# EAGLE library part 6_PIN_JST-XH (library scono)
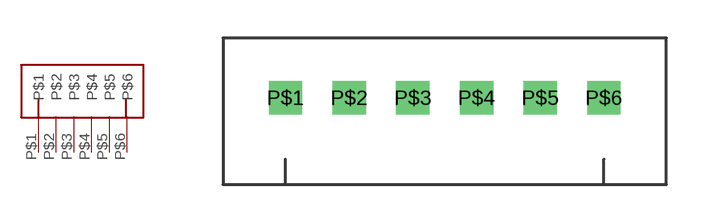
[diagram p45: symbol with the pads of 6_PIN_JST-XH; footprint 6_PIN_JST-XH]

Designator prefix -

## 6_PIN_JST-XH  [6_PIN_JST-XH]
P$1  P$1
P$2  P$2
P$3  P$3
P$4  P$4
P$5  P$5
P$6  P$6

## Footprint 6_PIN_JST-XH (pad centres in mm)
drill 0.8 square: P$1 2.45,3.4; P$2 4.95,3.4; P$3 7.45,3.4; P$4 9.95,3.4; P$5 12.45,3.4; P$6 14.95,3.4